# Altium integrated library TI_Logic_Flip-Flop,Latch,Register.IntLib: 2598 symbols (part 56 of 122)
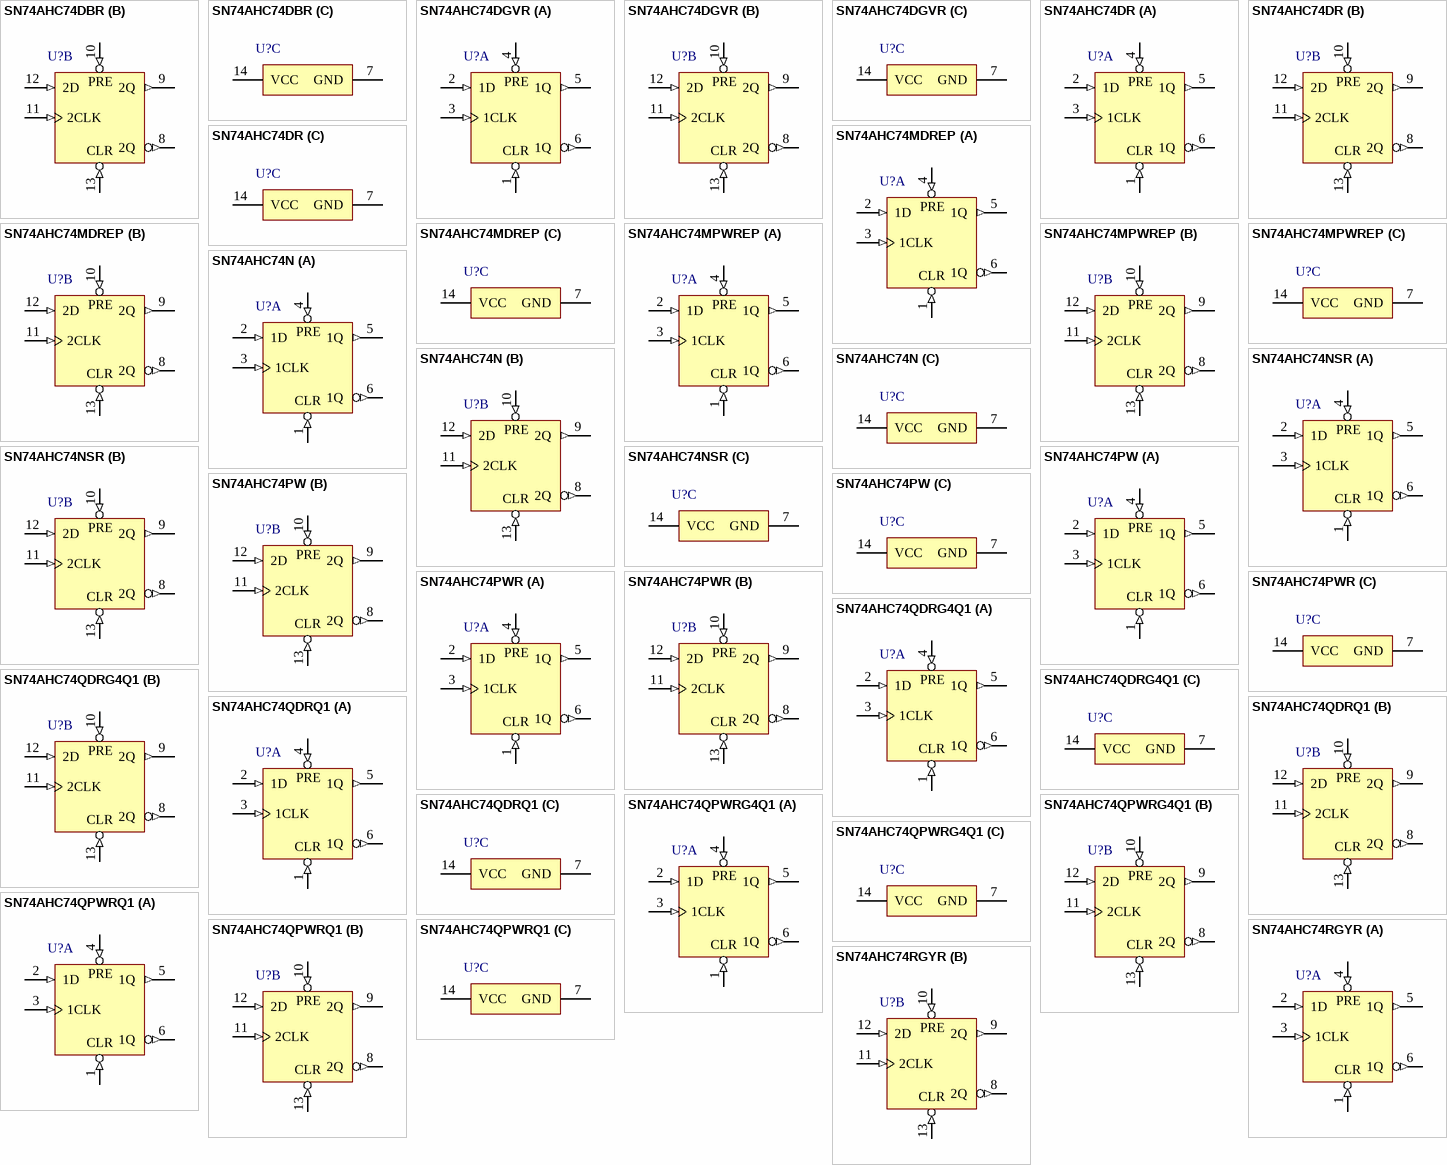
[diagram p194: symbols SN74AHC74DBR to SN74AHC74RGYR]

## SN74AHC74MDREP
designator U?
Enhanced Product Dual Positive-Edge-Triggered D-Type Flip-Flops With Clear And Preset, D0014A, LARGE T&R; Generic Part Number: SN74AHC74-EP; Manufacturer: Texas Instruments; PartNumber: SN74AHC74MDREP; VCC(Min)(V): 2; VCC(Max)(V): 5.5; Output Type: CMOS; ICC @ Nom Voltage(Max)(mA): 0.02; F @ Nom Voltage(Max)(Mhz): 110; Rating: HiRel Enhanced Product; Technology Family: AHC; Voltage(Nom)(V): 3.3,5; Schmitt Trigger: No; Output Drive (IOL/IOH)(Max)(mA): 50/-50; Output Logic: Inverted,Non-inverted; tpd @ Nom Voltage(Max)(ns): 18,11; DatasheetVersion: SCLS489; PackageReference: D0014A; Supplier 1: Digi-Key; Supplier Part Number 1: 296-22273-2-ND; Supplier 2: Digi-Key; Supplier Part Number 2: 296-22273-1-ND; Supplier 3: Digi-Key; Supplier Part Number 3: 296-22273-6-ND; Supplier 4: Mouser; Supplier Part Number 4: 595-SN74AHC74MDREP; Input Type: CMOS; Bits(#): 2; Operating Temperature Range(C): -55 to 125; 3-State Output: No; Code_JEDEC: MS-012; ComponentLink1Description: Manufacturer URL; ComponentLink1URL: http://www.ti.com/; ComponentLink2Description: Datasheet; ComponentLink2URL: http://www.ti.com/lit/ds/symlink/sn74ahc74-ep.pdf; ComponentLink3Description: Package Specification; ComponentLink3URL: http://www.ti.com/lit/ml/mpds177g/mpds177g.pdf
footprint D0014A_N (SOIC, 14-Leads, Body 8.75x4mm, Pitch 1.27mm, IPC Medium Density)
footprint D0014A_M (SOIC, 14-Leads, Body 8.75x4mm, Pitch 1.27mm, IPC Low Density)
footprint D0014A_L (SOIC, 14-Leads, Body 8.75x4mm, Pitch 1.27mm, IPC High Density)
part A pins: 1 1~{CLR} (in), 2 1D (in), 3 1CLK (in), 4 1~{PRE} (in), 5 1Q (out), 6 1Q (out)
part B pins: 8 2Q (out), 9 2Q (out), 10 2~{PRE} (in), 11 2CLK (in), 12 2D (in), 13 2~{CLR} (in)
part C pins: 7 GND (power), 14 VCC (power)
part A text: PRE; CLR
part B text: PRE; CLR

## SN74AHC74MPWREP
designator U?
Enhanced Product Dual Positive-Edge-Triggered D-Type Flip-Flops With Clear And Preset, PW0014A, LARGE T&R; Generic Part Number: SN74AHC74-EP; Manufacturer: Texas Instruments; PartNumber: SN74AHC74MPWREP; VCC(Min)(V): 2; VCC(Max)(V): 5.5; Output Type: CMOS; ICC @ Nom Voltage(Max)(mA): 0.02; F @ Nom Voltage(Max)(Mhz): 110; Rating: HiRel Enhanced Product; Technology Family: AHC; Voltage(Nom)(V): 3.3,5; Schmitt Trigger: No; Output Drive (IOL/IOH)(Max)(mA): 50/-50; Output Logic: Inverted,Non-inverted; tpd @ Nom Voltage(Max)(ns): 18,11; DatasheetVersion: SCLS489; PackageReference: PW0014A; Supplier 1: Digi-Key; Supplier Part Number 1: 296-22274-2-ND; Supplier 2: Digi-Key; Supplier Part Number 2: 296-22274-1-ND; Supplier 3: Digi-Key; Supplier Part Number 3: 296-22274-6-ND; Supplier 4: Newark; Supplier Part Number 4: 46M0081; Supplier 5: Mouser; Supplier Part Number 5: 595-SN74AHC74MPWREP; Input Type: CMOS; Bits(#): 2; Operating Temperature Range(C): -55 to 125; 3-State Output: No; Code_JEDEC: MO-153; ComponentLink1Description: Manufacturer URL; ComponentLink1URL: http://www.ti.com/; ComponentLink2Description: Datasheet; ComponentLink2URL: http://www.ti.com/lit/ds/symlink/sn74ahc74-ep.pdf; ComponentLink3Description: Package Specification; ComponentLink3URL: http://www.ti.com/lit/ml/mpds360/mpds360.pdf
footprint PW0014A_N (SOP, 14-Leads, Body 5.1x4.5mm, Pitch 0.65mm, IPC Medium Density)
footprint PW0014A_M (SOP, 14-Leads, Body 5.1x4.5mm, Pitch 0.65mm, IPC Low Density)
footprint PW0014A_L (SOP, 14-Leads, Body 5.1x4.5mm, Pitch 0.65mm, IPC High Density)
part A pins: 1 1~{CLR} (in), 2 1D (in), 3 1CLK (in), 4 1~{PRE} (in), 5 1Q (out), 6 1Q (out)
part B pins: 8 2Q (out), 9 2Q (out), 10 2~{PRE} (in), 11 2CLK (in), 12 2D (in), 13 2~{CLR} (in)
part C pins: 7 GND (power), 14 VCC (power)
part A text: PRE; CLR
part B text: PRE; CLR

## SN74AHC74N
designator U?
Dual Positive-Edge-Triggered D-Type Flip-Flops With Clear and Preset, N0014A, TUBE; Generic Part Number: SN74AHC74; Manufacturer: Texas Instruments; PartNumber: SN74AHC74N; VCC(Min)(V): 2; VCC(Max)(V): 5.5; Output Type: CMOS; Output: 3S; ICC @ Nom Voltage(Max)(mA): 0.02; F @ Nom Voltage(Max)(Mhz): 110; Rating: Catalog; Technology Family: AHC; Voltage(Nom)(V): 3.3,5; Schmitt Trigger: No; Output Drive (IOL/IOH)(Max)(mA): 50/-50; Output Logic: Inverted,Non-inverted; tpd @ Nom Voltage(Max)(ns): 17.5,10.5; DatasheetVersion: SCLS255K; PackageReference: N0014A; Supplier 1: Digi-Key; Supplier Part Number 1: 296-4623-5-ND; Supplier 2: Farnell; Supplier Part Number 2: 1749933; Supplier 3: Mouser; Supplier Part Number 3: 595-SN74AHC74N; Input Type: CMOS; Bits(#): 2; Operating Temperature Range(C): -40 to 125; 3-State Output: No; Code_JEDEC: MS-001; ComponentLink1Description: Manufacturer URL; ComponentLink1URL: http://www.ti.com/; ComponentLink2Description: Datasheet; ComponentLink2URL: http://www.ti.com/lit/ds/symlink/sn74ahc74.pdf; ComponentLink3Description: Package Specification; ComponentLink3URL: http://www.ti.com/lit/ml/mpdi002c/mpdi002c.pdf
footprint N0014A (DIP, 14-Leads, Body 19.7x6.6mm, Pitch 2.54mm)
part A pins: 1 1~{CLR} (in), 2 1D (in), 3 1CLK (in), 4 1~{PRE} (in), 5 1Q (out), 6 1Q (out)
part B pins: 8 2Q (out), 9 2Q (out), 10 2~{PRE} (in), 11 2CLK (in), 12 2D (in), 13 2~{CLR} (in)
part C pins: 7 GND (power), 14 VCC (power)
part A text: PRE; CLR
part B text: PRE; CLR

## SN74AHC74NSR
designator U?
Dual Positive-Edge-Triggered D-Type Flip-Flops With Clear and Preset, NS0014A, LARGE T&R; Generic Part Number: SN74AHC74; Manufacturer: Texas Instruments; PartNumber: SN74AHC74NSR; VCC(Min)(V): 2; VCC(Max)(V): 5.5; Output Type: CMOS; Output: 3S; ICC @ Nom Voltage(Max)(mA): 0.02; F @ Nom Voltage(Max)(Mhz): 110; Rating: Catalog; Technology Family: AHC; Voltage(Nom)(V): 3.3,5; Schmitt Trigger: No; Output Drive (IOL/IOH)(Max)(mA): 50/-50; Output Logic: Inverted,Non-inverted; tpd @ Nom Voltage(Max)(ns): 17.5,10.5; DatasheetVersion: SCLS255K; PackageReference: NS0014A; Supplier 1: Digi-Key; Supplier Part Number 1: 296-38220-2-ND; Supplier 2: Digi-Key; Supplier Part Number 2: 296-38220-1-ND; Supplier 3: Digi-Key; Supplier Part Number 3: 296-38220-6-ND; Supplier 4: Mouser; Supplier Part Number 4: 595-SN74AHC74NSR; Input Type: CMOS; Bits(#): 2; Operating Temperature Range(C): -40 to 125; 3-State Output: No; ComponentLink1Description: Manufacturer URL; ComponentLink1URL: http://www.ti.com/; ComponentLink2Description: Datasheet; ComponentLink2URL: http://www.ti.com/lit/ds/symlink/sn74ahc74.pdf; ComponentLink3Description: Package Specification; ComponentLink3URL: http://www.ti.com/lit/ml/msop002a/msop002a.pdf
footprint NS0014A_N (SOIC,14-Leads,Body 10.5x5.6mm,Pitch 1.27mm,IPC Medium Density)
footprint NS0014A_M (SOIC,14-Leads,Body 10.5x5.6mm,Pitch 1.27mm,IPC Low Density)
footprint NS0014A_L (SOIC,14-Leads,Body 10.5x5.6mm,Pitch 0.4mm,IPC High Density)
part A pins: 1 1~{CLR} (in), 2 1D (in), 3 1CLK (in), 4 1~{PRE} (in), 5 1Q (out), 6 1Q (out)
part B pins: 8 2Q (out), 9 2Q (out), 10 2~{PRE} (in), 11 2CLK (in), 12 2D (in), 13 2~{CLR} (in)
part C pins: 7 GND (power), 14 VCC (power)
part A text: PRE; CLR
part B text: PRE; CLR

## SN74AHC74PW
designator U?
Dual Positive-Edge-Triggered D-Type Flip-Flops With Clear and Preset, PW0014A, TUBE; Generic Part Number: SN74AHC74; Manufacturer: Texas Instruments; PartNumber: SN74AHC74PW; VCC(Min)(V): 2; VCC(Max)(V): 5.5; Output Type: CMOS; Output: 3S; ICC @ Nom Voltage(Max)(mA): 0.02; F @ Nom Voltage(Max)(Mhz): 110; Rating: Catalog; Technology Family: AHC; Voltage(Nom)(V): 3.3,5; Schmitt Trigger: No; Output Drive (IOL/IOH)(Max)(mA): 50/-50; Output Logic: Inverted,Non-inverted; tpd @ Nom Voltage(Max)(ns): 17.5,10.5; DatasheetVersion: SCLS255K; PackageReference: PW0014A; Supplier 1: Digi-Key; Supplier Part Number 1: 296-26410-5-ND; Supplier 2: Farnell; Supplier Part Number 2: 9590609; Supplier 3: Newark; Supplier Part Number 3: 98K0275; Supplier 4: Mouser; Supplier Part Number 4: 595-SN74AHC74PW; Input Type: CMOS; Bits(#): 2; Operating Temperature Range(C): -40 to 125; 3-State Output: No; Code_JEDEC: MO-153; ComponentLink1Description: Manufacturer URL; ComponentLink1URL: http://www.ti.com/; ComponentLink2Description: Datasheet; ComponentLink2URL: http://www.ti.com/lit/ds/symlink/sn74ahc74.pdf; ComponentLink3Description: Package Specification; ComponentLink3URL: http://www.ti.com/lit/ml/mpds360/mpds360.pdf
footprint PW0014A_N (SOP, 14-Leads, Body 5.1x4.5mm, Pitch 0.65mm, IPC Medium Density)
footprint PW0014A_M (SOP, 14-Leads, Body 5.1x4.5mm, Pitch 0.65mm, IPC Low Density)
footprint PW0014A_L (SOP, 14-Leads, Body 5.1x4.5mm, Pitch 0.65mm, IPC High Density)
part A pins: 1 1~{CLR} (in), 2 1D (in), 3 1CLK (in), 4 1~{PRE} (in), 5 1Q (out), 6 1Q (out)
part B pins: 8 2Q (out), 9 2Q (out), 10 2~{PRE} (in), 11 2CLK (in), 12 2D (in), 13 2~{CLR} (in)
part C pins: 7 GND (power), 14 VCC (power)
part A text: PRE; CLR
part B text: PRE; CLR

## SN74AHC74PWR
designator U?
Dual Positive-Edge-Triggered D-Type Flip-Flops With Clear and Preset, PW0014A, LARGE T&R; Generic Part Number: SN74AHC74; Manufacturer: Texas Instruments; PartNumber: SN74AHC74PWR; VCC(Min)(V): 2; VCC(Max)(V): 5.5; Output Type: CMOS; Output: 3S; ICC @ Nom Voltage(Max)(mA): 0.02; F @ Nom Voltage(Max)(Mhz): 110; Rating: Catalog; Technology Family: AHC; Voltage(Nom)(V): 3.3,5; Schmitt Trigger: No; Output Drive (IOL/IOH)(Max)(mA): 50/-50; Output Logic: Inverted,Non-inverted; tpd @ Nom Voltage(Max)(ns): 17.5,10.5; DatasheetVersion: SCLS255K; PackageReference: PW0014A; Supplier 1: Digi-Key; Supplier Part Number 1: 296-4624-2-ND; Supplier 2: Digi-Key; Supplier Part Number 2: 296-4624-1-ND; Supplier 3: Farnell; Supplier Part Number 3: 2342434; Supplier 4: Farnell; Supplier Part Number 4: 2436842; Supplier 5: Farnell; Supplier Part Number 5: 2342434RL; Supplier 6: Newark; Supplier Part Number 6: 33X1382; Supplier 7: Newark; Supplier Part Number 7: 76C1912; Supplier 8: Mouser; Supplier Part Number 8: 595-SN74AHC74PWR; Input Type: CMOS; Bits(#): 2; Operating Temperature Range(C): -40 to 125; 3-State Output: No; Code_JEDEC: MO-153; ComponentLink1Description: Manufacturer URL; ComponentLink1URL: http://www.ti.com/; ComponentLink2Description: Datasheet; ComponentLink2URL: http://www.ti.com/lit/ds/symlink/sn74ahc74.pdf; ComponentLink3Description: Package Specification; ComponentLink3URL: http://www.ti.com/lit/ml/mpds360/mpds360.pdf
footprint PW0014A_N (SOP, 14-Leads, Body 5.1x4.5mm, Pitch 0.65mm, IPC Medium Density)
footprint PW0014A_M (SOP, 14-Leads, Body 5.1x4.5mm, Pitch 0.65mm, IPC Low Density)
footprint PW0014A_L (SOP, 14-Leads, Body 5.1x4.5mm, Pitch 0.65mm, IPC High Density)
part A pins: 1 1~{CLR} (in), 2 1D (in), 3 1CLK (in), 4 1~{PRE} (in), 5 1Q (out), 6 1Q (out)
part B pins: 8 2Q (out), 9 2Q (out), 10 2~{PRE} (in), 11 2CLK (in), 12 2D (in), 13 2~{CLR} (in)
part C pins: 7 GND (power), 14 VCC (power)
part A text: PRE; CLR
part B text: PRE; CLR

## SN74AHC74QDRG4Q1
designator U?
Automotive Catalog Dual Positive-Edge-Triggered D-Type Flip-Flops With Clear and Preset, D0014A, LARGE T&R; Generic Part Number: SN74AHC74Q-Q1; Manufacturer: Texas Instruments; PartNumber: SN74AHC74QDRG4Q1; VCC(Min)(V): 2; VCC(Max)(V): 5.5; Output Type: CMOS; ICC @ Nom Voltage(Max)(mA): 0.02; F @ Nom Voltage(Max)(Mhz): 110; Technology Family: AHC; Voltage(Nom)(V): 3.3,5; Schmitt Trigger: No; Output Drive (IOL/IOH)(Max)(mA): 50/-50; Output Logic: Inverted; tpd @ Nom Voltage(Max)(ns): 18,11; DatasheetVersion: SGDS020A; PackageReference: D0014A; Supplier 1: Digi-Key; Supplier Part Number 1: 296-23887-2-ND; Supplier 2: Digi-Key; Supplier Part Number 2: 296-23887-1-ND; Supplier 3: Digi-Key; Supplier Part Number 3: 296-23887-6-ND; Supplier 4: Mouser; Supplier Part Number 4: 595-SN74AHC74QDRG4Q1; Input Type: CMOS; Bits(#): 2; Operating Temperature Range(C): -40 to 125; Rating: Automotive; 3-State Output: No; Code_JEDEC: MS-012; ComponentLink1Description: Manufacturer URL; ComponentLink1URL: http://www.ti.com/; ComponentLink2Description: Datasheet; ComponentLink2URL: http://www.ti.com/lit/ds/symlink/sn74ahc74q-q1.pdf; ComponentLink3Description: Package Specification; ComponentLink3URL: http://www.ti.com/lit/ml/mpds177g/mpds177g.pdf
footprint D0014A_N (SOIC, 14-Leads, Body 8.75x4mm, Pitch 1.27mm, IPC Medium Density)
footprint D0014A_M (SOIC, 14-Leads, Body 8.75x4mm, Pitch 1.27mm, IPC Low Density)
footprint D0014A_L (SOIC, 14-Leads, Body 8.75x4mm, Pitch 1.27mm, IPC High Density)
part A pins: 1 1~{CLR} (in), 2 1D (in), 3 1CLK (in), 4 1~{PRE} (in), 5 1Q (out), 6 1Q (out)
part B pins: 8 2Q (out), 9 2Q (out), 10 2~{PRE} (in), 11 2CLK (in), 12 2D (in), 13 2~{CLR} (in)
part C pins: 7 GND (power), 14 VCC (power)
part A text: PRE; CLR
part B text: PRE; CLR

## SN74AHC74QDRQ1
designator U?
Automotive Catalog Dual Positive-Edge-Triggered D-Type Flip-Flops With Clear and Preset, D0014A, LARGE T&R; Generic Part Number: SN74AHC74Q-Q1; Manufacturer: Texas Instruments; PartNumber: SN74AHC74QDRQ1; VCC(Min)(V): 2; VCC(Max)(V): 5.5; Output Type: CMOS; ICC @ Nom Voltage(Max)(mA): 0.02; F @ Nom Voltage(Max)(Mhz): 110; Technology Family: AHC; Voltage(Nom)(V): 3.3,5; Schmitt Trigger: No; Output Drive (IOL/IOH)(Max)(mA): 50/-50; Output Logic: Inverted; tpd @ Nom Voltage(Max)(ns): 18,11; DatasheetVersion: SGDS020A; PackageReference: D0014A; Supplier 1: Digi-Key; Supplier Part Number 1: 296-17298-2-ND; Supplier 2: Digi-Key; Supplier Part Number 2: 296-17298-1-ND; Supplier 3: Digi-Key; Supplier Part Number 3: 296-17298-6-ND; Supplier 4: Mouser; Supplier Part Number 4: 595-SN74AHC74QDRQ1; Input Type: CMOS; Bits(#): 2; Operating Temperature Range(C): -40 to 125; Rating: Automotive; 3-State Output: No; Code_JEDEC: MS-012; ComponentLink1Description: Manufacturer URL; ComponentLink1URL: http://www.ti.com/; ComponentLink2Description: Datasheet; ComponentLink2URL: http://www.ti.com/lit/ds/symlink/sn74ahc74q-q1.pdf; ComponentLink3Description: Package Specification; ComponentLink3URL: http://www.ti.com/lit/ml/mpds177g/mpds177g.pdf
footprint D0014A_N (SOIC, 14-Leads, Body 8.75x4mm, Pitch 1.27mm, IPC Medium Density)
footprint D0014A_M (SOIC, 14-Leads, Body 8.75x4mm, Pitch 1.27mm, IPC Low Density)
footprint D0014A_L (SOIC, 14-Leads, Body 8.75x4mm, Pitch 1.27mm, IPC High Density)
part A pins: 1 1~{CLR} (in), 2 1D (in), 3 1CLK (in), 4 1~{PRE} (in), 5 1Q (out), 6 1Q (out)
part B pins: 8 2Q (out), 9 2Q (out), 10 2~{PRE} (in), 11 2CLK (in), 12 2D (in), 13 2~{CLR} (in)
part C pins: 7 GND (power), 14 VCC (power)
part A text: PRE; CLR
part B text: PRE; CLR

## SN74AHC74QPWRG4Q1
designator U?
Automotive Catalog Dual Positive-Edge-Triggered D-Type Flip-Flops With Clear and Preset, PW0014A, LARGE T&R; Generic Part Number: SN74AHC74Q-Q1; Manufacturer: Texas Instruments; PartNumber: SN74AHC74QPWRG4Q1; VCC(Min)(V): 2; VCC(Max)(V): 5.5; Output Type: CMOS; ICC @ Nom Voltage(Max)(mA): 0.02; F @ Nom Voltage(Max)(Mhz): 110; Technology Family: AHC; Voltage(Nom)(V): 3.3,5; Schmitt Trigger: No; Output Drive (IOL/IOH)(Max)(mA): 50/-50; Output Logic: Inverted; tpd @ Nom Voltage(Max)(ns): 18,11; DatasheetVersion: SGDS020A; PackageReference: PW0014A; Supplier 1: Digi-Key; Supplier Part Number 1: 296-24426-2-ND; Supplier 2: Digi-Key; Supplier Part Number 2: 296-24426-1-ND; Supplier 3: Digi-Key; Supplier Part Number 3: 296-24426-6-ND; Supplier 4: Farnell; Supplier Part Number 4: 2334895; Supplier 5: Newark; Supplier Part Number 5: 06X0790; Supplier 6: Mouser; Supplier Part Number 6: 595-N74AHC74QPWRG4Q1; Input Type: CMOS; Bits(#): 2; Operating Temperature Range(C): -40 to 125; Rating: Automotive; 3-State Output: No; Code_JEDEC: MO-153; ComponentLink1Description: Manufacturer URL; ComponentLink1URL: http://www.ti.com/; ComponentLink2Description: Datasheet; ComponentLink2URL: http://www.ti.com/lit/ds/symlink/sn74ahc74q-q1.pdf; ComponentLink3Description: Package Specification; ComponentLink3URL: http://www.ti.com/lit/ml/mpds360/mpds360.pdf
footprint PW0014A_N (SOP, 14-Leads, Body 5.1x4.5mm, Pitch 0.65mm, IPC Medium Density)
footprint PW0014A_M (SOP, 14-Leads, Body 5.1x4.5mm, Pitch 0.65mm, IPC Low Density)
footprint PW0014A_L (SOP, 14-Leads, Body 5.1x4.5mm, Pitch 0.65mm, IPC High Density)
part A pins: 1 1~{CLR} (in), 2 1D (in), 3 1CLK (in), 4 1~{PRE} (in), 5 1Q (out), 6 1Q (out)
part B pins: 8 2Q (out), 9 2Q (out), 10 2~{PRE} (in), 11 2CLK (in), 12 2D (in), 13 2~{CLR} (in)
part C pins: 7 GND (power), 14 VCC (power)
part A text: PRE; CLR
part B text: PRE; CLR

## SN74AHC74QPWRQ1
designator U?
Automotive Catalog Dual Positive-Edge-Triggered D-Type Flip-Flops With Clear and Preset, PW0014A, LARGE T&R; Generic Part Number: SN74AHC74Q-Q1; Manufacturer: Texas Instruments; PartNumber: SN74AHC74QPWRQ1; VCC(Min)(V): 2; VCC(Max)(V): 5.5; Output Type: CMOS; ICC @ Nom Voltage(Max)(mA): 0.02; F @ Nom Voltage(Max)(Mhz): 110; Technology Family: AHC; Voltage(Nom)(V): 3.3,5; Schmitt Trigger: No; Output Drive (IOL/IOH)(Max)(mA): 50/-50; Output Logic: Inverted; tpd @ Nom Voltage(Max)(ns): 18,11; DatasheetVersion: SGDS020A; PackageReference: PW0014A; Supplier 1: Digi-Key; Supplier Part Number 1: 296-17496-2-ND; Supplier 2: Digi-Key; Supplier Part Number 2: 296-17496-1-ND; Supplier 3: Digi-Key; Supplier Part Number 3: 296-17496-6-ND; Supplier 4: Farnell; Supplier Part Number 4: 1601158; Supplier 5: Farnell; Supplier Part Number 5: 1601158RL; Supplier 6: Newark; Supplier Part Number 6: 13N4840; Supplier 7: Mouser; Supplier Part Number 7: 595-SN74AHC74QPWRQ1; Input Type: CMOS; Bits(#): 2; Operating Temperature Range(C): -40 to 125; Rating: Automotive; 3-State Output: No; Code_JEDEC: MO-153; ComponentLink1Description: Manufacturer URL; ComponentLink1URL: http://www.ti.com/; ComponentLink2Description: Datasheet; ComponentLink2URL: http://www.ti.com/lit/ds/symlink/sn74ahc74q-q1.pdf; ComponentLink3Description: Package Specification; ComponentLink3URL: http://www.ti.com/lit/ml/mpds360/mpds360.pdf
footprint PW0014A_N (SOP, 14-Leads, Body 5.1x4.5mm, Pitch 0.65mm, IPC Medium Density)
footprint PW0014A_M (SOP, 14-Leads, Body 5.1x4.5mm, Pitch 0.65mm, IPC Low Density)
footprint PW0014A_L (SOP, 14-Leads, Body 5.1x4.5mm, Pitch 0.65mm, IPC High Density)
part A pins: 1 1~{CLR} (in), 2 1D (in), 3 1CLK (in), 4 1~{PRE} (in), 5 1Q (out), 6 1Q (out)
part B pins: 8 2Q (out), 9 2Q (out), 10 2~{PRE} (in), 11 2CLK (in), 12 2D (in), 13 2~{CLR} (in)
part C pins: 7 GND (power), 14 VCC (power)
part A text: PRE; CLR
part B text: PRE; CLR

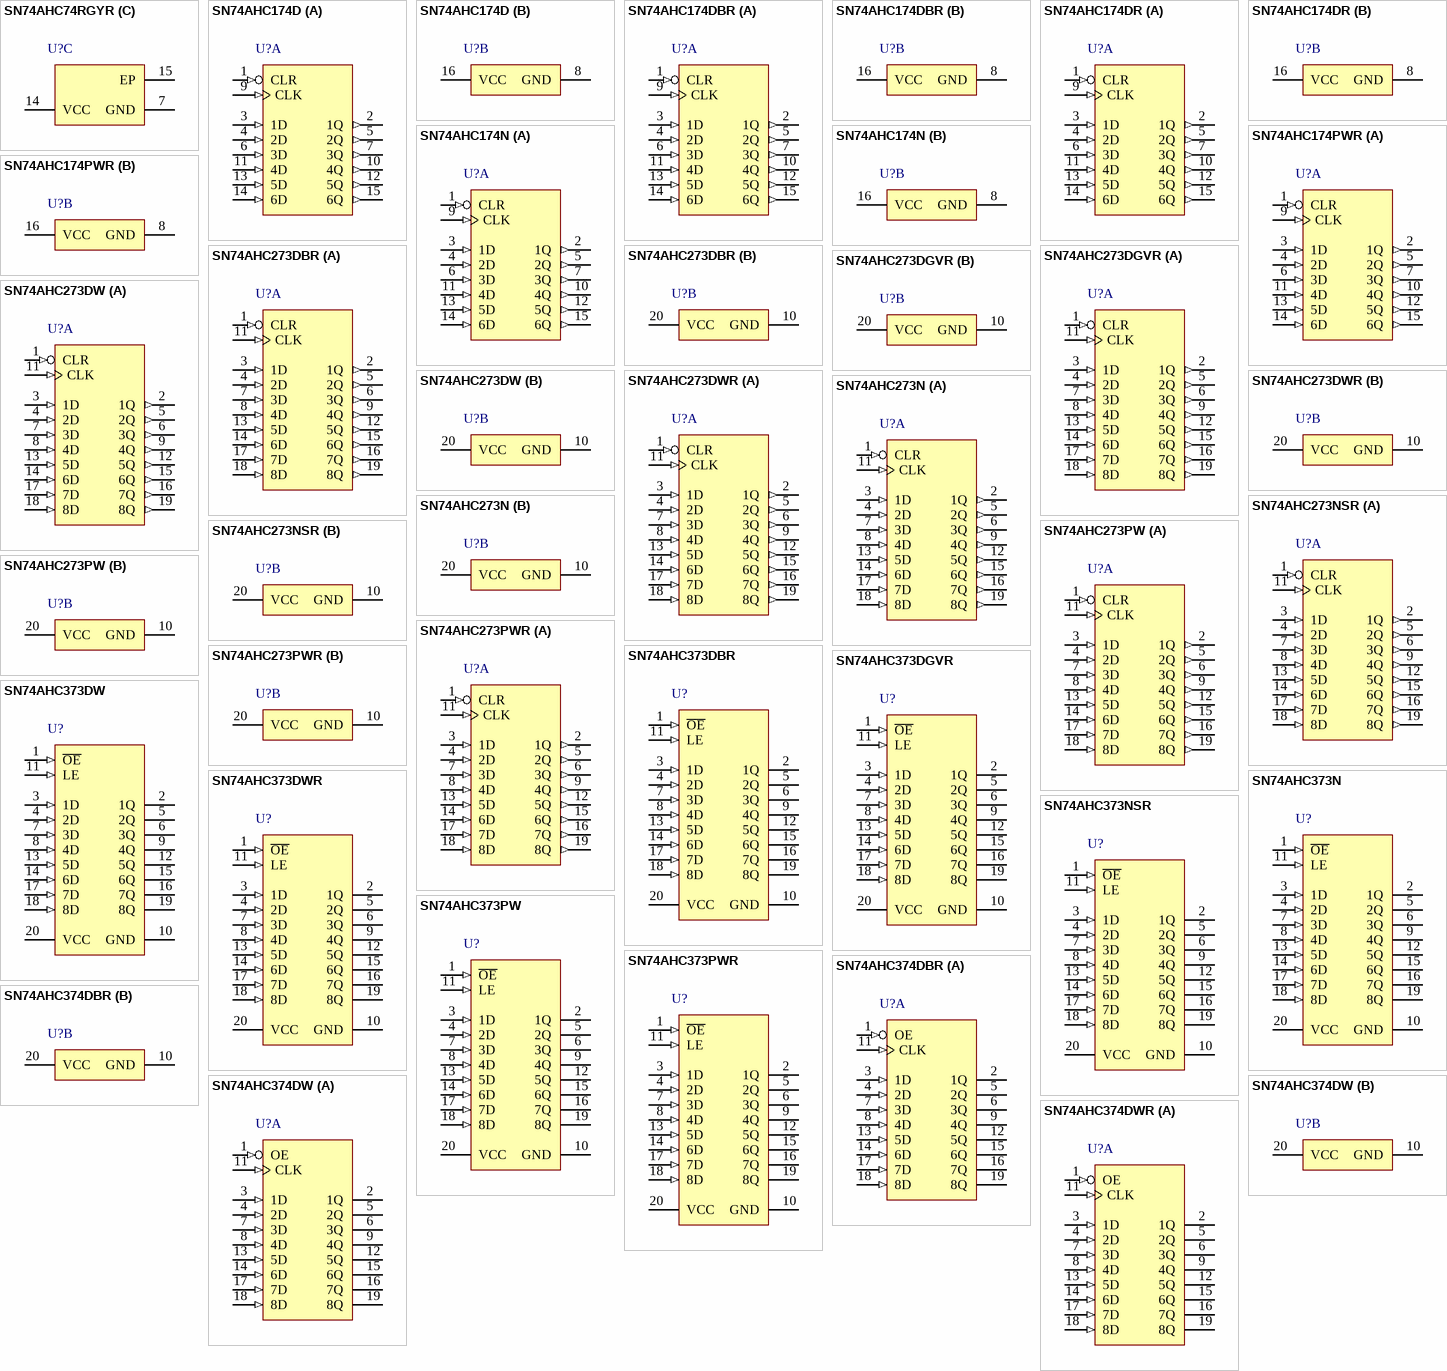
[diagram p65: symbols SN74AHC74RGYR to SN74AHC374DWR]

## SN74AHC74RGYR
designator U?
Dual Positive-Edge-Triggered D-Type Flip-Flops With Clear and Preset, RGY0014A, LARGE T&R; Generic Part Number: SN74AHC74; Manufacturer: Texas Instruments; PartNumber: SN74AHC74RGYR; VCC(Min)(V): 2; VCC(Max)(V): 5.5; Output Type: CMOS; Output: 3S; ICC @ Nom Voltage(Max)(mA): 0.02; F @ Nom Voltage(Max)(Mhz): 110; Rating: Catalog; Technology Family: AHC; Voltage(Nom)(V): 3.3,5; Schmitt Trigger: No; Output Drive (IOL/IOH)(Max)(mA): 50/-50; Output Logic: Inverted,Non-inverted; tpd @ Nom Voltage(Max)(ns): 17.5,10.5; DatasheetVersion: SCLS255K; PackageReference: RGY0014A; Supplier 1: Digi-Key; Supplier Part Number 1: 296-13904-2-ND; Supplier 2: Digi-Key; Supplier Part Number 2: 296-13904-1-ND; Supplier 3: Digi-Key; Supplier Part Number 3: 296-13904-6-ND; Supplier 4: Newark; Supplier Part Number 4: 02E6931; Supplier 5: Mouser; Supplier Part Number 5: 595-SN74AHC74RGYR; Input Type: CMOS; Bits(#): 2; Operating Temperature Range(C): -40 to 125; 3-State Output: No; Code_JEDEC: MO-241; ComponentLink1Description: Manufacturer URL; ComponentLink1URL: http://www.ti.com/; ComponentLink2Description: Datasheet; ComponentLink2URL: http://www.ti.com/lit/ds/symlink/sn74ahc74.pdf; ComponentLink3Description: Package Specification; ComponentLink3URL: http://www.ti.com/lit/ml/mpqf114g/mpqf114g.pdf
footprint RGY0014A_V (QFN, 14-Leads, Body 3.5x3.5mm, Thermal Pad 2.05x2.05mm, TI Recommend)
part A pins: 1 1~{CLR} (in), 2 1D (in), 3 1CLK (in), 4 1~{PRE} (in), 5 1Q (out), 6 1Q (out)
part B pins: 8 2Q (out), 9 2Q (out), 10 2~{PRE} (in), 11 2CLK (in), 12 2D (in), 13 2~{CLR} (in)
part C pins: 7 GND (power), 14 VCC (power) "Supply voltage input", 15 EP
part A text: PRE; CLR
part B text: PRE; CLR

## SN74AHC174D
designator U?
Hex D-Type Flip-Flops With Clear, D0016A, TUBE; Generic Part Number: SN74AHC174; Manufacturer: Texas Instruments; PartNumber: SN74AHC174D; VCC(Min)(V): 2; VCC(Max)(V): 5.5; Output Type: CMOS; ICC @ Nom Voltage(Max)(mA): 0.04; Bits(#): 6; F @ Nom Voltage(Max)(Mhz): 110; Rating: Catalog; Technology Family: AHC; Voltage(Nom)(V): 3.3,5; Schmitt Trigger: No; Output Drive (IOL/IOH)(Max)(mA): 50/-50; Output Logic: Non-inverted; tpd @ Nom Voltage(Max)(ns): 16.5,10.5; DatasheetVersion: SCLS425F; PackageReference: D0016A; Supplier 1: Digi-Key; Supplier Part Number 1: 296-1467-5-ND; Supplier 2: Farnell; Supplier Part Number 2: 1754674; Supplier 3: Mouser; Supplier Part Number 3: 595-SN74AHC174D; Input Type: CMOS; Operating Temperature Range(C): -40 to 85; 3-State Output: No; Code_JEDEC: MS-012 variation AC; ComponentLink1Description: Manufacturer URL; ComponentLink1URL: http://www.ti.com/; ComponentLink2Description: Datasheet; ComponentLink2URL: http://www.ti.com/lit/ds/symlink/sn74ahc174.pdf; ComponentLink3Description: Package Specification; ComponentLink3URL: http://www.ti.com/lit/ml/mpds178g/mpds178g.pdf
footprint D0016A_N (SOIC, 16-Leads, Body 10x4mm, Pitch 1.27mm, IPC Medium Density)
footprint D0016A_M (SOIC, 16-Leads, Body 10x4mm, Pitch 1.27mm, IPC Low Density)
footprint D0016A_L (SOIC, 16-Leads, Body 10x4mm, Pitch 1.27mm, IPC High Density)
part A pins: 1 CLR (in), 2 1Q (out), 3 1D (in), 4 2D (in), 5 2Q (out), 6 3D (in), 7 3Q (out), 9 CLK (in), 10 4Q (out), 11 4D (in), 12 5Q (out), 13 5D (in), 14 6D (in), 15 6Q (out)
part B pins: 8 GND (power), 16 VCC (power)

## SN74AHC174DBR
designator U?
Hex D-Type Flip-Flops With Clear, DB0016A, LARGE T&R; Generic Part Number: SN74AHC174; Manufacturer: Texas Instruments; PartNumber: SN74AHC174DBR; VCC(Min)(V): 2; VCC(Max)(V): 5.5; Output Type: CMOS; ICC @ Nom Voltage(Max)(mA): 0.04; Bits(#): 6; F @ Nom Voltage(Max)(Mhz): 110; Rating: Catalog; Technology Family: AHC; Voltage(Nom)(V): 3.3,5; Schmitt Trigger: No; Output Drive (IOL/IOH)(Max)(mA): 50/-50; Output Logic: Non-inverted; tpd @ Nom Voltage(Max)(ns): 16.5,10.5; DatasheetVersion: SCLS425F; PackageReference: DB0016A; Supplier 1: Digi-Key; Supplier Part Number 1: 296-4578-2-ND; Supplier 2: Digi-Key; Supplier Part Number 2: 296-4578-1-ND; Supplier 3: Digi-Key; Supplier Part Number 3: 296-4578-6-ND; Supplier 4: Mouser; Supplier Part Number 4: 595-SN74AHC174DBR; Input Type: CMOS; Operating Temperature Range(C): -40 to 85; 3-State Output: No; Code_JEDEC: MO-150; ComponentLink1Description: Manufacturer URL; ComponentLink1URL: http://www.ti.com/; ComponentLink2Description: Datasheet; ComponentLink2URL: http://www.ti.com/lit/ds/symlink/sn74ahc174.pdf; ComponentLink3Description: Package Specification; ComponentLink3URL: http://www.ti.com/lit/ml/mpds507/mpds507.pdf
footprint DB0016A_N (SOP, 16-Leads, Body 5.6x6.5mm, Pitch 0.65mm, IPC Medium Density)
footprint DB0016A_M (SOP, 16-Leads, Body 5.6x6.5mm, Pitch 0.65mm, IPC Low Density)
footprint DB0016A_L (SOP, 16-Leads, Body 5.6x6.5mm, Pitch 0.65mm, IPC High Density)
part A pins: 1 CLR (in), 2 1Q (out), 3 1D (in), 4 2D (in), 5 2Q (out), 6 3D (in), 7 3Q (out), 9 CLK (in), 10 4Q (out), 11 4D (in), 12 5Q (out), 13 5D (in), 14 6D (in), 15 6Q (out)
part B pins: 8 GND (power), 16 VCC (power)

## SN74AHC174DR
designator U?
Hex D-Type Flip-Flops With Clear, D0016A, LARGE T&R; Generic Part Number: SN74AHC174; Manufacturer: Texas Instruments; PartNumber: SN74AHC174DR; VCC(Min)(V): 2; VCC(Max)(V): 5.5; Output Type: CMOS; ICC @ Nom Voltage(Max)(mA): 0.04; Bits(#): 6; F @ Nom Voltage(Max)(Mhz): 110; Rating: Catalog; Technology Family: AHC; Voltage(Nom)(V): 3.3,5; Schmitt Trigger: No; Output Drive (IOL/IOH)(Max)(mA): 50/-50; Output Logic: Non-inverted; tpd @ Nom Voltage(Max)(ns): 16.5,10.5; DatasheetVersion: SCLS425F; PackageReference: D0016A; Supplier 1: Digi-Key; Supplier Part Number 1: SN74AHC174DR-ND; Supplier 2: Newark; Supplier Part Number 2: 76C1818; Supplier 3: Mouser; Supplier Part Number 3: 595-SN74AHC174DR; Input Type: CMOS; Operating Temperature Range(C): -40 to 85; 3-State Output: No; Code_JEDEC: MS-012 variation AC; ComponentLink1Description: Manufacturer URL; ComponentLink1URL: http://www.ti.com/; ComponentLink2Description: Datasheet; ComponentLink2URL: http://www.ti.com/lit/ds/symlink/sn74ahc174.pdf; ComponentLink3Description: Package Specification; ComponentLink3URL: http://www.ti.com/lit/ml/mpds178g/mpds178g.pdf
footprint D0016A_N (SOIC, 16-Leads, Body 10x4mm, Pitch 1.27mm, IPC Medium Density)
footprint D0016A_M (SOIC, 16-Leads, Body 10x4mm, Pitch 1.27mm, IPC Low Density)
footprint D0016A_L (SOIC, 16-Leads, Body 10x4mm, Pitch 1.27mm, IPC High Density)
part A pins: 1 CLR (in), 2 1Q (out), 3 1D (in), 4 2D (in), 5 2Q (out), 6 3D (in), 7 3Q (out), 9 CLK (in), 10 4Q (out), 11 4D (in), 12 5Q (out), 13 5D (in), 14 6D (in), 15 6Q (out)
part B pins: 8 GND (power), 16 VCC (power)

## SN74AHC174N
designator U?
Hex D-Type Flip-Flops With Clear, N0016A, TUBE; Generic Part Number: SN74AHC174; Manufacturer: Texas Instruments; PartNumber: SN74AHC174N; VCC(Min)(V): 2; VCC(Max)(V): 5.5; Output Type: CMOS; ICC @ Nom Voltage(Max)(mA): 0.04; Bits(#): 6; F @ Nom Voltage(Max)(Mhz): 110; Rating: Catalog; Technology Family: AHC; Voltage(Nom)(V): 3.3,5; Schmitt Trigger: No; Output Drive (IOL/IOH)(Max)(mA): 50/-50; Output Logic: Non-inverted; tpd @ Nom Voltage(Max)(ns): 16.5,10.5; DatasheetVersion: SCLS425F; PackageReference: N0016A; Supplier 1: Digi-Key; Supplier Part Number 1: 296-1468-5-ND; Supplier 2: Farnell; Supplier Part Number 2: 1749928; Supplier 3: Mouser; Supplier Part Number 3: 595-SN74AHC174N; Input Type: CMOS; Operating Temperature Range(C): -40 to 85; 3-State Output: No; Code_JEDEC: MS-001; ComponentLink1Description: Manufacturer URL; ComponentLink1URL: http://www.ti.com/; ComponentLink2Description: Datasheet; ComponentLink2URL: http://www.ti.com/lit/ds/symlink/sn74ahc174.pdf; ComponentLink3Description: Package Specification; ComponentLink3URL: http://www.ti.com/lit/ml/mpdi002c/mpdi002c.pdf
footprint N0016A (DIP, 16-Leads, Body 19.7x6.6mm, Pitch 2.54mm)
part A pins: 1 CLR (in), 2 1Q (out), 3 1D (in), 4 2D (in), 5 2Q (out), 6 3D (in), 7 3Q (out), 9 CLK (in), 10 4Q (out), 11 4D (in), 12 5Q (out), 13 5D (in), 14 6D (in), 15 6Q (out)
part B pins: 8 GND (power), 16 VCC (power)

## SN74AHC174PWR
designator U?
Hex D-Type Flip-Flops With Clear, PW0016A, LARGE T&R; Generic Part Number: SN74AHC174; Manufacturer: Texas Instruments; PartNumber: SN74AHC174PWR; VCC(Min)(V): 2; VCC(Max)(V): 5.5; Output Type: CMOS; ICC @ Nom Voltage(Max)(mA): 0.04; Bits(#): 6; F @ Nom Voltage(Max)(Mhz): 110; Rating: Catalog; Technology Family: AHC; Voltage(Nom)(V): 3.3,5; Schmitt Trigger: No; Output Drive (IOL/IOH)(Max)(mA): 50/-50; Output Logic: Non-inverted; tpd @ Nom Voltage(Max)(ns): 16.5,10.5; DatasheetVersion: SCLS425F; PackageReference: PW0016A; Supplier 1: Digi-Key; Supplier Part Number 1: 296-12739-2-ND; Supplier 2: Digi-Key; Supplier Part Number 2: 296-12739-1-ND; Supplier 3: Digi-Key; Supplier Part Number 3: 296-12739-6-ND; Supplier 4: Mouser; Supplier Part Number 4: 595-SN74AHC174PWR; Input Type: CMOS; Operating Temperature Range(C): -40 to 85; 3-State Output: No; Code_JEDEC: MO-153; ComponentLink1Description: Manufacturer URL; ComponentLink1URL: http://www.ti.com/; ComponentLink2Description: Datasheet; ComponentLink2URL: http://www.ti.com/lit/ds/symlink/sn74ahc174.pdf; ComponentLink3Description: Package Specification; ComponentLink3URL: http://www.ti.com/lit/ml/mpds361/mpds361.pdf
footprint PW0016A_N (SOP, 16-Leads, Body 5.1x4.5mm, Pitch 0.65mm, IPC Medium Density)
footprint PW0016A_M (SOP, 16-Leads, Body 5.1x4.5mm, Pitch 0.65mm, IPC Low Density)
footprint PW0016A_L (SOP, 16-Leads, Body 5.1x4.5mm, Pitch 0.65mm, IPC High Density)
part A pins: 1 CLR (in), 2 1Q (out), 3 1D (in), 4 2D (in), 5 2Q (out), 6 3D (in), 7 3Q (out), 9 CLK (in), 10 4Q (out), 11 4D (in), 12 5Q (out), 13 5D (in), 14 6D (in), 15 6Q (out)
part B pins: 8 GND (power), 16 VCC (power)

## SN74AHC273DBR
designator U?
Octal D-Type Flip-Flops With Clear, DB0020A, LARGE T&R; Generic Part Number: SN74AHC273; Manufacturer: Texas Instruments; PartNumber: SN74AHC273DBR; VCC(Min)(V): 2; VCC(Max)(V): 5.5; Output Type: CMOS; ICC @ Nom Voltage(Max)(mA): 0.04; Bits(#): 8; F @ Nom Voltage(Max)(Mhz): 110; Rating: Catalog; Technology Family: AHC; Voltage(Nom)(V): 3.3,5; Schmitt Trigger: No; Output Drive (IOL/IOH)(Max)(mA): 50/-50; Output Logic: Non-inverted; tpd @ Nom Voltage(Max)(ns): 19.5,12.5; DatasheetVersion: SCLS376I; PackageReference: DB0020A; Supplier 1: Digi-Key; Supplier Part Number 1: 296-4590-2-ND; Supplier 2: Digi-Key; Supplier Part Number 2: 296-4590-1-ND; Supplier 3: Digi-Key; Supplier Part Number 3: 296-4590-6-ND; Supplier 4: Mouser; Supplier Part Number 4: 595-SN74AHC273DBR; Input Type: CMOS; Operating Temperature Range(C): -40 to 125,-40 to 85; 3-State Output: No; Code_JEDEC: MO-150; ComponentLink1Description: Manufacturer URL; ComponentLink1URL: http://www.ti.com/; ComponentLink2Description: Datasheet; ComponentLink2URL: http://www.ti.com/lit/ds/symlink/sn74ahc273.pdf; ComponentLink3Description: Package Specification; ComponentLink3URL: http://www.ti.com/lit/ml/mpds508/mpds508.pdf
footprint DB0020A_N (SOP, 20-Leads, Body 5.6x7.5mm, Pitch 0.65mm, IPC Medium Density)
footprint DB0020A_M (SOP, 20-Leads, Body 5.6x7.5mm, Pitch 0.65mm, IPC Low Density)
footprint DB0020A_L (SOP, 20-Leads, Body 5.6x7.5mm, Pitch 0.65mm, IPC High Density)
part A pins: 1 CLR (in) "Clear Pin", 2 1Q (out) "1Q Output", 3 1D (in) "1D Input", 4 2D (in) "2D Input", 5 2Q (out) "2Q Output", 6 3Q (out) "3Q Output", 7 3D (in) "3D Input", 8 4D (in) "4D Input", 9 4Q (out) "4Q Output", 11 CLK (in) "Clock Pin", 12 5Q (out) "5Q Output", 13 5D (in) "5D Input", 14 6D (in) "6D Input", 15 6Q (out) "6Q Output", 16 7Q (out) "7Q Output", 17 7D (in) "7D Input", 18 8D (in) "8D Input", 19 8Q (out) "8Q Output"
part B pins: 10 GND (power) "Ground Pin", 20 VCC (power) "Power Pin"

## SN74AHC273DGVR
designator U?
Octal D-Type Flip-Flops With Clear, DGV0020A, LARGE T&R; Generic Part Number: SN74AHC273; Manufacturer: Texas Instruments; PartNumber: SN74AHC273DGVR; VCC(Min)(V): 2; VCC(Max)(V): 5.5; Output Type: CMOS; ICC @ Nom Voltage(Max)(mA): 0.04; Bits(#): 8; F @ Nom Voltage(Max)(Mhz): 110; Rating: Catalog; Technology Family: AHC; Voltage(Nom)(V): 3.3,5; Schmitt Trigger: No; Output Drive (IOL/IOH)(Max)(mA): 50/-50; Output Logic: Non-inverted; tpd @ Nom Voltage(Max)(ns): 19.5,12.5; DatasheetVersion: SCLS376I; PackageReference: DGV0020A; Supplier 1: Digi-Key; Supplier Part Number 1: 296-4591-2-ND; Supplier 2: Digi-Key; Supplier Part Number 2: 296-4591-1-ND; Supplier 3: Digi-Key; Supplier Part Number 3: 296-4591-6-ND; Supplier 4: Mouser; Supplier Part Number 4: 595-SN74AHC273DGVR; Input Type: CMOS; Operating Temperature Range(C): -40 to 125,-40 to 85; 3-State Output: No; Code_JEDEC: MO-194; ComponentLink1Description: Manufacturer URL; ComponentLink1URL: http://www.ti.com/; ComponentLink2Description: Datasheet; ComponentLink2URL: http://www.ti.com/lit/ds/symlink/sn74ahc273.pdf; ComponentLink3Description: Package Specification; ComponentLink3URL: http://www.ti.com/lit/ml/mpds006c/mpds006c.pdf
footprint DGV0020A_N (SOP, 20-Leads, Body 4.5x5.1mm, Pitch 0.4mm, IPC Medium Density)
footprint DGV0020A_M (SOP, 20-Leads, Body 4.5x5.1mm, Pitch 0.4mm, IPC Low Density)
footprint DGV0020A_L (SOP, 20-Leads, Body 4.5x5.1mm, Pitch 0.4mm, IPC High Density)
part A pins: 1 CLR (in) "Clear Pin", 2 1Q (out) "1Q Output", 3 1D (in) "1D Input", 4 2D (in) "2D Input", 5 2Q (out) "2Q Output", 6 3Q (out) "3Q Output", 7 3D (in) "3D Input", 8 4D (in) "4D Input", 9 4Q (out) "4Q Output", 11 CLK (in) "Clock Pin", 12 5Q (out) "5Q Output", 13 5D (in) "5D Input", 14 6D (in) "6D Input", 15 6Q (out) "6Q Output", 16 7Q (out) "7Q Output", 17 7D (in) "7D Input", 18 8D (in) "8D Input", 19 8Q (out) "8Q Output"
part B pins: 10 GND (power) "Ground Pin", 20 VCC (power) "Power Pin"

## SN74AHC273DW
designator U?
Octal D-Type Flip-Flops With Clear, DW0020A, TUBE; Generic Part Number: SN74AHC273; Manufacturer: Texas Instruments; PartNumber: SN74AHC273DW; VCC(Min)(V): 2; VCC(Max)(V): 5.5; Output Type: CMOS; ICC @ Nom Voltage(Max)(mA): 0.04; Bits(#): 8; F @ Nom Voltage(Max)(Mhz): 110; Rating: Catalog; Technology Family: AHC; Voltage(Nom)(V): 3.3,5; Schmitt Trigger: No; Output Drive (IOL/IOH)(Max)(mA): 50/-50; Output Logic: Non-inverted; tpd @ Nom Voltage(Max)(ns): 19.5,12.5; DatasheetVersion: SCLS376I; PackageReference: DW0020A; Supplier 1: Digi-Key; Supplier Part Number 1: 296-1470-5-ND; Supplier 2: Farnell; Supplier Part Number 2: 1739869; Supplier 3: Newark; Supplier Part Number 3: 50R5907; Supplier 4: Mouser; Supplier Part Number 4: 595-SN74AHC273DW; Input Type: CMOS; Operating Temperature Range(C): -40 to 125,-40 to 85; 3-State Output: No; Code_JEDEC: MS-013; ComponentLink1Description: Manufacturer URL; ComponentLink1URL: http://www.ti.com/; ComponentLink2Description: Datasheet; ComponentLink2URL: http://www.ti.com/lit/ds/symlink/sn74ahc273.pdf; ComponentLink3Description: Package Specification; ComponentLink3URL: http://www.ti.com/lit/ml/mpds173a/mpds173a.pdf
footprint DW0020A_N (SOIC, 20-Leads, Body 13x7.6mm, Pitch 1.27mm, IPC Medium Density)
footprint DW0020A_M (SOIC, 20-Leads, Body 13x7.6mm, Pitch 1.27mm, IPC Low Density)
footprint DW0020A_L (SOIC, 20-Leads, Body 13x7.6mm, Pitch 1.27mm, IPC High Density)
part A pins: 1 CLR (in) "Clear Pin", 2 1Q (out) "1Q Output", 3 1D (in) "1D Input", 4 2D (in) "2D Input", 5 2Q (out) "2Q Output", 6 3Q (out) "3Q Output", 7 3D (in) "3D Input", 8 4D (in) "4D Input", 9 4Q (out) "4Q Output", 11 CLK (in) "Clock Pin", 12 5Q (out) "5Q Output", 13 5D (in) "5D Input", 14 6D (in) "6D Input", 15 6Q (out) "6Q Output", 16 7Q (out) "7Q Output", 17 7D (in) "7D Input", 18 8D (in) "8D Input", 19 8Q (out) "8Q Output"
part B pins: 10 GND (power) "Ground Pin", 20 VCC (power) "Power Pin"

## SN74AHC273DWR
designator U?
Octal D-Type Flip-Flops With Clear, DW0020A, LARGE T&R; Generic Part Number: SN74AHC273; Manufacturer: Texas Instruments; PartNumber: SN74AHC273DWR; VCC(Min)(V): 2; VCC(Max)(V): 5.5; Output Type: CMOS; ICC @ Nom Voltage(Max)(mA): 0.04; Bits(#): 8; F @ Nom Voltage(Max)(Mhz): 110; Rating: Catalog; Technology Family: AHC; Voltage(Nom)(V): 3.3,5; Schmitt Trigger: No; Output Drive (IOL/IOH)(Max)(mA): 50/-50; Output Logic: Non-inverted; tpd @ Nom Voltage(Max)(ns): 19.5,12.5; DatasheetVersion: SCLS376I; PackageReference: DW0020A; Supplier 1: Digi-Key; Supplier Part Number 1: 296-1470-2-ND; Supplier 2: Digi-Key; Supplier Part Number 2: 296-1470-1-ND; Supplier 3: Digi-Key; Supplier Part Number 3: 296-1470-6-ND; Supplier 4: Mouser; Supplier Part Number 4: 595-SN74AHC273DWR; Input Type: CMOS; Operating Temperature Range(C): -40 to 125,-40 to 85; 3-State Output: No; Code_JEDEC: MS-013; ComponentLink1Description: Manufacturer URL; ComponentLink1URL: http://www.ti.com/; ComponentLink2Description: Datasheet; ComponentLink2URL: http://www.ti.com/lit/ds/symlink/sn74ahc273.pdf; ComponentLink3Description: Package Specification; ComponentLink3URL: http://www.ti.com/lit/ml/mpds173a/mpds173a.pdf
footprint DW0020A_N (SOIC, 20-Leads, Body 13x7.6mm, Pitch 1.27mm, IPC Medium Density)
footprint DW0020A_M (SOIC, 20-Leads, Body 13x7.6mm, Pitch 1.27mm, IPC Low Density)
footprint DW0020A_L (SOIC, 20-Leads, Body 13x7.6mm, Pitch 1.27mm, IPC High Density)
part A pins: 1 CLR (in) "Clear Pin", 2 1Q (out) "1Q Output", 3 1D (in) "1D Input", 4 2D (in) "2D Input", 5 2Q (out) "2Q Output", 6 3Q (out) "3Q Output", 7 3D (in) "3D Input", 8 4D (in) "4D Input", 9 4Q (out) "4Q Output", 11 CLK (in) "Clock Pin", 12 5Q (out) "5Q Output", 13 5D (in) "5D Input", 14 6D (in) "6D Input", 15 6Q (out) "6Q Output", 16 7Q (out) "7Q Output", 17 7D (in) "7D Input", 18 8D (in) "8D Input", 19 8Q (out) "8Q Output"
part B pins: 10 GND (power) "Ground Pin", 20 VCC (power) "Power Pin"

## SN74AHC273N
designator U?
Octal D-Type Flip-Flops With Clear, N0020A, TUBE; Generic Part Number: SN74AHC273; Manufacturer: Texas Instruments; PartNumber: SN74AHC273N; VCC(Min)(V): 2; VCC(Max)(V): 5.5; Output Type: CMOS; ICC @ Nom Voltage(Max)(mA): 0.04; Bits(#): 8; F @ Nom Voltage(Max)(Mhz): 110; Rating: Catalog; Technology Family: AHC; Voltage(Nom)(V): 3.3,5; Schmitt Trigger: No; Output Drive (IOL/IOH)(Max)(mA): 50/-50; Output Logic: Non-inverted; tpd @ Nom Voltage(Max)(ns): 19.5,12.5; DatasheetVersion: SCLS376I; PackageReference: N0020A; Supplier 1: Digi-Key; Supplier Part Number 1: 296-1471-5-ND; Supplier 2: Mouser; Supplier Part Number 2: 595-SN74AHC273N; Input Type: CMOS; Operating Temperature Range(C): -40 to 125,-40 to 85; 3-State Output: No; Code_JEDEC: MS-001; ComponentLink1Description: Manufacturer URL; ComponentLink1URL: http://www.ti.com/; ComponentLink2Description: Datasheet; ComponentLink2URL: http://www.ti.com/lit/ds/symlink/sn74ahc273.pdf; ComponentLink3Description: Package Specification; ComponentLink3URL: http://www.ti.com/lit/ml/mpdi002c/mpdi002c.pdf
footprint N0020A (DIP, 20-Leads, Body 26.9x6.6mm, Pitch 2.54mm)
part A pins: 1 CLR (in) "Clear Pin", 2 1Q (out) "1Q Output", 3 1D (in) "1D Input", 4 2D (in) "2D Input", 5 2Q (out) "2Q Output", 6 3Q (out) "3Q Output", 7 3D (in) "3D Input", 8 4D (in) "4D Input", 9 4Q (out) "4Q Output", 11 CLK (in) "Clock Pin", 12 5Q (out) "5Q Output", 13 5D (in) "5D Input", 14 6D (in) "6D Input", 15 6Q (out) "6Q Output", 16 7Q (out) "7Q Output", 17 7D (in) "7D Input", 18 8D (in) "8D Input", 19 8Q (out) "8Q Output"
part B pins: 10 GND (power) "Ground Pin", 20 VCC (power) "Power Pin"

## SN74AHC273NSR
designator U?
Octal D-Type Flip-Flops With Clear, NS0020A, LARGE T&R; Generic Part Number: SN74AHC273; Manufacturer: Texas Instruments; PartNumber: SN74AHC273NSR; VCC(Min)(V): 2; VCC(Max)(V): 5.5; Output Type: CMOS; ICC @ Nom Voltage(Max)(mA): 0.04; Bits(#): 8; F @ Nom Voltage(Max)(Mhz): 110; Rating: Catalog; Technology Family: AHC; Voltage(Nom)(V): 3.3,5; Schmitt Trigger: No; Output Drive (IOL/IOH)(Max)(mA): 50/-50; Output Logic: Non-inverted; tpd @ Nom Voltage(Max)(ns): 19.5,12.5; DatasheetVersion: SCLS376I; PackageReference: NS0020A; Supplier 1: Digi-Key; Supplier Part Number 1: 296-29969-2-ND; Supplier 2: Digi-Key; Supplier Part Number 2: 296-29969-1-ND; Supplier 3: Digi-Key; Supplier Part Number 3: 296-29969-6-ND; Supplier 4: Mouser; Supplier Part Number 4: 595-SN74AHC273NSR; Input Type: CMOS; Operating Temperature Range(C): -40 to 125,-40 to 85; 3-State Output: No; ComponentLink1Description: Manufacturer URL; ComponentLink1URL: http://www.ti.com/; ComponentLink2Description: Datasheet; ComponentLink2URL: http://www.ti.com/lit/ds/symlink/sn74ahc273.pdf; ComponentLink3Description: Package Specification; ComponentLink3URL: http://www.ti.com/lit/ml/msop002a/msop002a.pdf
footprint NS0020A_N (SOIC,20-Leads,Body 12.9x5.6mm,Pitch 1.27mm,IPC Medium Density)
footprint NS0020A_M (SOIC,20-Leads,Body 12.9x5.6mm,Pitch 1.27mm,IPC Low Density)
footprint NS0020A_L (SOIC,20-Leads,Body 12.9x5.6mm,Pitch 1.27mm,IPC High Density)
part A pins: 1 CLR (in) "Clear Pin", 2 1Q (out) "1Q Output", 3 1D (in) "1D Input", 4 2D (in) "2D Input", 5 2Q (out) "2Q Output", 6 3Q (out) "3Q Output", 7 3D (in) "3D Input", 8 4D (in) "4D Input", 9 4Q (out) "4Q Output", 11 CLK (in) "Clock Pin", 12 5Q (out) "5Q Output", 13 5D (in) "5D Input", 14 6D (in) "6D Input", 15 6Q (out) "6Q Output", 16 7Q (out) "7Q Output", 17 7D (in) "7D Input", 18 8D (in) "8D Input", 19 8Q (out) "8Q Output"
part B pins: 10 GND (power) "Ground Pin", 20 VCC (power) "Power Pin"

## SN74AHC273PW
designator U?
Octal D-Type Flip-Flops With Clear, PW0020A, TUBE; Generic Part Number: SN74AHC273; Manufacturer: Texas Instruments; PartNumber: SN74AHC273PW; VCC(Min)(V): 2; VCC(Max)(V): 5.5; Output Type: CMOS; ICC @ Nom Voltage(Max)(mA): 0.04; Bits(#): 8; F @ Nom Voltage(Max)(Mhz): 110; Rating: Catalog; Technology Family: AHC; Voltage(Nom)(V): 3.3,5; Schmitt Trigger: No; Output Drive (IOL/IOH)(Max)(mA): 50/-50; Output Logic: Non-inverted; tpd @ Nom Voltage(Max)(ns): 19.5,12.5; DatasheetVersion: SCLS376I; PackageReference: PW0020A; Supplier 1: Digi-Key; Supplier Part Number 1: 296-26404-5-ND; Supplier 2: Newark; Supplier Part Number 2: 02H5359; Supplier 3: Mouser; Supplier Part Number 3: 595-SN74AHC273PW; Input Type: CMOS; Operating Temperature Range(C): -40 to 125,-40 to 85; 3-State Output: No; Code_JEDEC: MO-153; ComponentLink1Description: Manufacturer URL; ComponentLink1URL: http://www.ti.com/; ComponentLink2Description: Datasheet; ComponentLink2URL: http://www.ti.com/lit/ds/symlink/sn74ahc273.pdf; ComponentLink3Description: Package Specification; ComponentLink3URL: http://www.ti.com/lit/ml/mpds362/mpds362.pdf
footprint PW0020A_N (SOP, 20-Leads, Body 6.6x4.5mm, Pitch 0.65mm, IPC Medium Density)
footprint PW0020A_M (SOP, 20-Leads, Body 6.6x4.5mm, Pitch 0.65mm, IPC Low Density)
footprint PW0020A_L (SOP, 20-Leads, Body 6.6x4.5mm, Pitch 0.65mm, IPC High Density)
part A pins: 1 CLR (in) "Clear Pin", 2 1Q (out) "1Q Output", 3 1D (in) "1D Input", 4 2D (in) "2D Input", 5 2Q (out) "2Q Output", 6 3Q (out) "3Q Output", 7 3D (in) "3D Input", 8 4D (in) "4D Input", 9 4Q (out) "4Q Output", 11 CLK (in) "Clock Pin", 12 5Q (out) "5Q Output", 13 5D (in) "5D Input", 14 6D (in) "6D Input", 15 6Q (out) "6Q Output", 16 7Q (out) "7Q Output", 17 7D (in) "7D Input", 18 8D (in) "8D Input", 19 8Q (out) "8Q Output"
part B pins: 10 GND (power) "Ground Pin", 20 VCC (power) "Power Pin"

## SN74AHC273PWR
designator U?
Octal D-Type Flip-Flops With Clear, PW0020A, LARGE T&R; Generic Part Number: SN74AHC273; Manufacturer: Texas Instruments; PartNumber: SN74AHC273PWR; VCC(Min)(V): 2; VCC(Max)(V): 5.5; Output Type: CMOS; ICC @ Nom Voltage(Max)(mA): 0.04; Bits(#): 8; F @ Nom Voltage(Max)(Mhz): 110; Rating: Catalog; Technology Family: AHC; Voltage(Nom)(V): 3.3,5; Schmitt Trigger: No; Output Drive (IOL/IOH)(Max)(mA): 50/-50; Output Logic: Non-inverted; tpd @ Nom Voltage(Max)(ns): 19.5,12.5; DatasheetVersion: SCLS376I; PackageReference: PW0020A; Supplier 1: Digi-Key; Supplier Part Number 1: 296-4592-2-ND; Supplier 2: Digi-Key; Supplier Part Number 2: 296-4592-1-ND; Supplier 3: Digi-Key; Supplier Part Number 3: 296-4592-6-ND; Supplier 4: Farnell; Supplier Part Number 4: 2499855; Supplier 5: Newark; Supplier Part Number 5: 94B2061; Supplier 6: Newark; Supplier Part Number 6: 68Y8012; Supplier 7: Mouser; Supplier Part Number 7: 595-SN74AHC273PWR; Input Type: CMOS; Operating Temperature Range(C): -40 to 125,-40 to 85; 3-State Output: No; Code_JEDEC: MO-153; ComponentLink1Description: Manufacturer URL; ComponentLink1URL: http://www.ti.com/; ComponentLink2Description: Datasheet; ComponentLink2URL: http://www.ti.com/lit/ds/symlink/sn74ahc273.pdf; ComponentLink3Description: Package Specification; ComponentLink3URL: http://www.ti.com/lit/ml/mpds362/mpds362.pdf
footprint PW0020A_N (SOP, 20-Leads, Body 6.6x4.5mm, Pitch 0.65mm, IPC Medium Density)
footprint PW0020A_M (SOP, 20-Leads, Body 6.6x4.5mm, Pitch 0.65mm, IPC Low Density)
footprint PW0020A_L (SOP, 20-Leads, Body 6.6x4.5mm, Pitch 0.65mm, IPC High Density)
part A pins: 1 CLR (in) "Clear Pin", 2 1Q (out) "1Q Output", 3 1D (in) "1D Input", 4 2D (in) "2D Input", 5 2Q (out) "2Q Output", 6 3Q (out) "3Q Output", 7 3D (in) "3D Input", 8 4D (in) "4D Input", 9 4Q (out) "4Q Output", 11 CLK (in) "Clock Pin", 12 5Q (out) "5Q Output", 13 5D (in) "5D Input", 14 6D (in) "6D Input", 15 6Q (out) "6Q Output", 16 7Q (out) "7Q Output", 17 7D (in) "7D Input", 18 8D (in) "8D Input", 19 8Q (out) "8Q Output"
part B pins: 10 GND (power) "Ground Pin", 20 VCC (power) "Power Pin"

## SN74AHC373DBR
designator U?
Octal Transparent D-Type Latches With 3-State Outputs, DB0020A, LARGE T&R; Generic Part Number: SN74AHC373; Manufacturer: Texas Instruments; PartNumber: SN74AHC373DBR; VCC(Min)(V): 2; VCC(Max)(V): 5.5; Output Type: CMOS; Logic: True; Static Current: 0.04; Bits(#): 8; F @ Nom Voltage(Max)(Mhz): 110; Rating: Catalog; Technology Family: AHC; Voltage(Nom)(V): 3.3,5; Schmitt Trigger: No; Output Drive (IOL/IOH)(Max)(mA): 50/-50; Output Logic: Non-inverted; 3-State Output: Yes; tpd @ Nom Voltage(Max)(ns): 15,10.5; DatasheetVersion: SCLS235I; PackageReference: DB0020A; Supplier 1: Digi-Key; Supplier Part Number 1: 296-4598-2-ND; Supplier 2: Digi-Key; Supplier Part Number 2: 296-4598-1-ND; Supplier 3: Digi-Key; Supplier Part Number 3: 296-4598-6-ND; Supplier 4: Mouser; Supplier Part Number 4: 595-SN74AHC373DBR; ICC @ Nom Voltage(Max)(mA): 0.04; Input Type: CMOS; Operating Temperature Range(C): -40 to 85; Code_JEDEC: MO-150; ComponentLink1Description: Manufacturer URL; ComponentLink1URL: http://www.ti.com/; ComponentLink2Description: Datasheet; ComponentLink2URL: http://www.ti.com/lit/ds/symlink/sn74ahc373.pdf; ComponentLink3Description: Package Specification; ComponentLink3URL: http://www.ti.com/lit/ml/mpds508/mpds508.pdf
footprint DB0020A_N (SOP, 20-Leads, Body 5.6x7.5mm, Pitch 0.65mm, IPC Medium Density)
footprint DB0020A_M (SOP, 20-Leads, Body 5.6x7.5mm, Pitch 0.65mm, IPC Low Density)
footprint DB0020A_L (SOP, 20-Leads, Body 5.6x7.5mm, Pitch 0.65mm, IPC High Density)
pins: 1 ~{OE} (in) "Output Enable", 2 1Q (hiz) "1Q Output", 3 1D (in) "1D Input", 4 2D (in) "2D Input", 5 2Q (hiz) "2Q Output", 6 3Q (hiz) "3Q Output", 7 3D (in) "3D Input", 8 4D (in) "4D Input", 9 4Q (hiz) "4Q Output", 10 GND (power) "Ground Pin", 11 LE (in) "Latch Enable", 12 5Q (hiz) "5Q Output", 13 5D (in) "5D Input", 14 6D (in) "6D Input", 15 6Q (hiz) "6Q Output", 16 7Q (hiz) "7Q Output", 17 7D (in) "7D Input", 18 8D (in) "8D Input", 19 8Q (hiz) "8Q Output", 20 VCC (power) "Power Pin"

## SN74AHC373DGVR
designator U?
Octal Transparent D-Type Latches With 3-State Outputs, DGV0020A, LARGE T&R; Generic Part Number: SN74AHC373; Manufacturer: Texas Instruments; PartNumber: SN74AHC373DGVR; VCC(Min)(V): 2; VCC(Max)(V): 5.5; Output Type: CMOS; Logic: True; Static Current: 0.04; Bits(#): 8; F @ Nom Voltage(Max)(Mhz): 110; Rating: Catalog; Technology Family: AHC; Voltage(Nom)(V): 3.3,5; Schmitt Trigger: No; Output Drive (IOL/IOH)(Max)(mA): 50/-50; Output Logic: Non-inverted; 3-State Output: Yes; tpd @ Nom Voltage(Max)(ns): 15,10.5; DatasheetVersion: SCLS235I; PackageReference: DGV0020A; Supplier 1: Digi-Key; Supplier Part Number 1: 296-17111-2-ND; Supplier 2: Digi-Key; Supplier Part Number 2: 296-17111-1-ND; Supplier 3: Digi-Key; Supplier Part Number 3: 296-17111-6-ND; Supplier 4: Mouser; Supplier Part Number 4: 595-SN74AHC373DGVR; ICC @ Nom Voltage(Max)(mA): 0.04; Input Type: CMOS; Operating Temperature Range(C): -40 to 85; Code_JEDEC: MO-194; ComponentLink1Description: Manufacturer URL; ComponentLink1URL: http://www.ti.com/; ComponentLink2Description: Datasheet; ComponentLink2URL: http://www.ti.com/lit/ds/symlink/sn74ahc373.pdf; ComponentLink3Description: Package Specification; ComponentLink3URL: http://www.ti.com/lit/ml/mpds006c/mpds006c.pdf
footprint DGV0020A_N (SOP, 20-Leads, Body 4.5x5.1mm, Pitch 0.4mm, IPC Medium Density)
footprint DGV0020A_M (SOP, 20-Leads, Body 4.5x5.1mm, Pitch 0.4mm, IPC Low Density)
footprint DGV0020A_L (SOP, 20-Leads, Body 4.5x5.1mm, Pitch 0.4mm, IPC High Density)
pins: 1 ~{OE} (in) "Output Enable", 2 1Q (hiz) "1Q Output", 3 1D (in) "1D Input", 4 2D (in) "2D Input", 5 2Q (hiz) "2Q Output", 6 3Q (hiz) "3Q Output", 7 3D (in) "3D Input", 8 4D (in) "4D Input", 9 4Q (hiz) "4Q Output", 10 GND (power) "Ground Pin", 11 LE (in) "Latch Enable", 12 5Q (hiz) "5Q Output", 13 5D (in) "5D Input", 14 6D (in) "6D Input", 15 6Q (hiz) "6Q Output", 16 7Q (hiz) "7Q Output", 17 7D (in) "7D Input", 18 8D (in) "8D Input", 19 8Q (hiz) "8Q Output", 20 VCC (power) "Power Pin"

## SN74AHC373DW
designator U?
Octal Transparent D-Type Latches With 3-State Outputs, DW0020A, TUBE; Generic Part Number: SN74AHC373; Manufacturer: Texas Instruments; PartNumber: SN74AHC373DW; VCC(Min)(V): 2; VCC(Max)(V): 5.5; Output Type: CMOS; Logic: True; Static Current: 0.04; Bits(#): 8; F @ Nom Voltage(Max)(Mhz): 110; Rating: Catalog; Technology Family: AHC; Voltage(Nom)(V): 3.3,5; Schmitt Trigger: No; Output Drive (IOL/IOH)(Max)(mA): 50/-50; Output Logic: Non-inverted; 3-State Output: Yes; tpd @ Nom Voltage(Max)(ns): 15,10.5; DatasheetVersion: SCLS235I; PackageReference: DW0020A; Supplier 1: Digi-Key; Supplier Part Number 1: 296-4599-5-ND; Supplier 2: Farnell; Supplier Part Number 2: 1740069; Supplier 3: Mouser; Supplier Part Number 3: 595-SN74AHC373DW; ICC @ Nom Voltage(Max)(mA): 0.04; Input Type: CMOS; Operating Temperature Range(C): -40 to 85; Code_JEDEC: MS-013; ComponentLink1Description: Manufacturer URL; ComponentLink1URL: http://www.ti.com/; ComponentLink2Description: Datasheet; ComponentLink2URL: http://www.ti.com/lit/ds/symlink/sn74ahc373.pdf; ComponentLink3Description: Package Specification; ComponentLink3URL: http://www.ti.com/lit/ml/mpds173a/mpds173a.pdf
footprint DW0020A_N (SOIC, 20-Leads, Body 13x7.6mm, Pitch 1.27mm, IPC Medium Density)
footprint DW0020A_M (SOIC, 20-Leads, Body 13x7.6mm, Pitch 1.27mm, IPC Low Density)
footprint DW0020A_L (SOIC, 20-Leads, Body 13x7.6mm, Pitch 1.27mm, IPC High Density)
pins: 1 ~{OE} (in) "Output Enable", 2 1Q (hiz) "1Q Output", 3 1D (in) "1D Input", 4 2D (in) "2D Input", 5 2Q (hiz) "2Q Output", 6 3Q (hiz) "3Q Output", 7 3D (in) "3D Input", 8 4D (in) "4D Input", 9 4Q (hiz) "4Q Output", 10 GND (power) "Ground Pin", 11 LE (in) "Latch Enable", 12 5Q (hiz) "5Q Output", 13 5D (in) "5D Input", 14 6D (in) "6D Input", 15 6Q (hiz) "6Q Output", 16 7Q (hiz) "7Q Output", 17 7D (in) "7D Input", 18 8D (in) "8D Input", 19 8Q (hiz) "8Q Output", 20 VCC (power) "Power Pin"